# Altium footprint library EMB1061.PcbLib: 1 footprints
Each footprint in its own frame and in the unit in brackets; x right, y up, seen from the top. Pads: shape width x height; smd on the part's side, far side on the other; paste and mask are expansions set on the pad; w line width, h text height; cw(c..) or ccw(c..) is an arc to the next point about the centre after c.
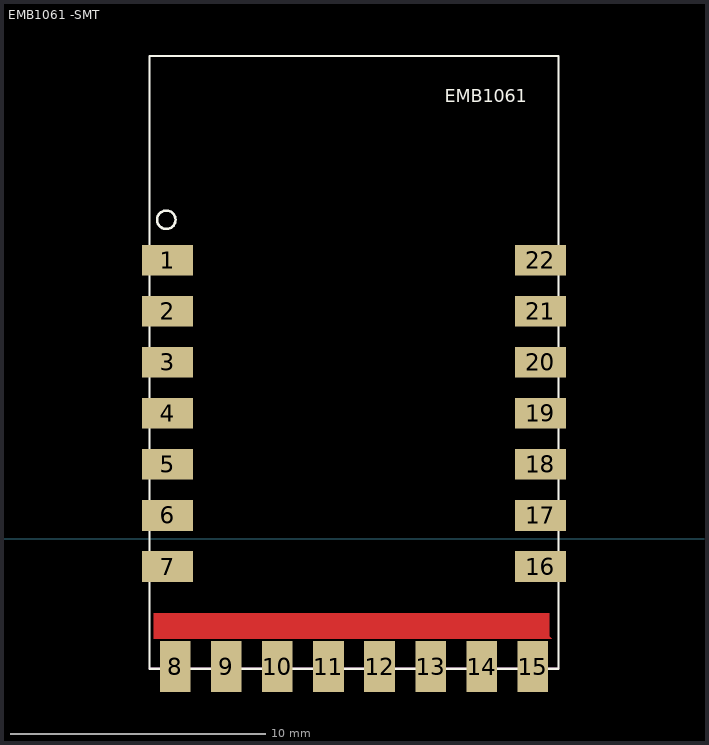
[diagram p0: the footprint, top view; thin cyan lines are the x and y axes]

## EMB1061 -SMT [mm]
pads (22):
  rrect0% 2x1.2 smd: 1(11.749,10.92) 2(11.749,8.92) 3(11.749,6.92) 4(11.749,4.92) 5(11.749,2.92) 6(11.749,0.92) 7(11.749,-1.08) 16(26.349,-1.08) 17(26.349,0.92) 18(26.349,2.92) 19(26.349,4.92) 20(26.349,6.92) 21(26.349,8.92) 22(26.349,10.92)
  rect 1.2x2 smd: 8(12.049,-5) 9(14.049,-5) 10(16.049,-5) 11(18.049,-5) 12(20.049,-5) 13(22.049,-5) 14(24.049,-5) 15(26.049,-5)
Top Layer:
  pour cut-out: 11.2,-2.9 11.2,-3.9 26.8,-3.9 26.7,-3.8 26.7,-2.9
Top Overlay:
  circle w0.1: c11.7,12.5 r0.361
  lines w0.08: 11.049,-5.08 11.049,18.92 27.049,18.92 27.049,-5.08 27.049,10.92
  lines w0.1: 11.049,-5.08 27.049,-5.08
  text "EMB1061" at 22.6,17.1 h0.5
Keep-Out Layer:
  lines w0.08: 11.049,-5.08 27.049,-5.08